# Altium integrated library NSC Logic Boundary Scan.IntLib: 3 symbols
Pins are listed as number, name and electrical type; pins without a type are passive.

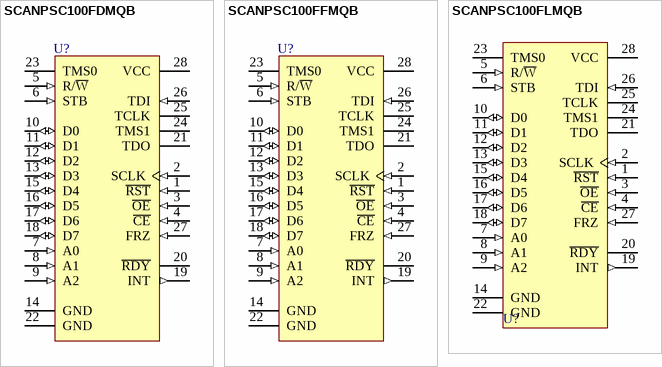
[diagram p0: symbols SCANPSC100FDMQB to SCANPSC100FLMQB]

## SCANPSC100FDMQB
designator U?
Embedded Boundary Scan Controller; ComponentAvailability: Obsolete; Published: 15-Apr-2002; LatestRevisionDate: 06-Jun-2005; LatestRevisionNote: Stylized 3D Model Added.; DatasheetVersion: Sep-1998; PackageVersion: 2000; PackageReference: J28A; Publisher: Altium Limited; PackageDescription: DIP; 28 Leads; Row Spacing 15.24 mm; Pitch 2.54 mm; ComponentLink1Description: Manufacturer Link; ComponentLink1URL: http://www.national.com/; ComponentLink2Description: Datasheet; ComponentLink2URL: http://www.national.com/ds.cgi/SC/SCANPSC100F.pdf; ComponentLink3Description: Discontinuation Notice; ComponentLink3URL: http://www.national.com/obs/obsolescence.txt; ComponentLink4Description: URL Link1; ComponentLink4URL: http://www.national.com/pf/SC/SCANPSC100F.html
footprint J28A (DIP; 28 Leads; Row Spacing 15.24 mm; Pitch 2.54 mm)
3D model J28A (DIP; 28 Leads; Row Spacing 15.24 mm; Pitch 2.54 mm)
pins: 1 ~{RST} (in), 2 SCLK (in), 3 ~{OE} (in), 4 ~{CE} (in), 5 R/~{W} (in), 6 STB (in), 7 A0 (in), 8 A1 (in), 9 A2 (in), 10 D0 (io), 11 D1 (io), 12 D2 (io), 13 D3 (io), 14 GND (power), 15 D4 (io), 16 D5 (io), 17 D6 (io), 18 D7 (io), 19 INT (out), 20 ~{RDY} (hiz), 21 TDO (hiz), 22 GND (power), 23 TMS0 (hiz), 24 TMS1 (hiz), 25 TCLK (hiz), 26 TDI (in), 27 FRZ (in), 28 VCC (power)

## SCANPSC100FFMQB
designator U?
Embedded Boundary Scan Controller; Published: 15-Apr-2002; LatestRevisionDate: 06-Jun-2005; LatestRevisionNote: Stylized 3D Model Added.; DatasheetVersion: Sep-1998; PackageVersion: 1998; PackageReference: WA28D; Publisher: Altium Limited; PackageDescription: DFP; 28 Leads; Body 18.8 x 10.2 mm (LxW max); Pitch 1.27 mm; ComponentLink1Description: Manufacturer Link; ComponentLink1URL: http://www.national.com/; ComponentLink2Description: Datasheet; ComponentLink2URL: http://www.national.com/ds.cgi/SC/SCANPSC100F.pdf; ComponentLink3Description: URL Link1; ComponentLink3URL: http://www.national.com/pf/SC/SCANPSC100F.html
footprint WA28D (DFP; 28 Leads; Body 18.8 x 10.2 mm (LxW max); Pitch 1.27 mm)
3D model WA28D (DFP; 28 Leads; Body 18.8 x 10.2 mm (LxW max); Pitch 1.27 mm)
pins: 1 ~{RST} (in), 2 SCLK (in), 3 ~{OE} (in), 4 ~{CE} (in), 5 R/~{W} (in), 6 STB (in), 7 A0 (in), 8 A1 (in), 9 A2 (in), 10 D0 (io), 11 D1 (io), 12 D2 (io), 13 D3 (io), 14 GND (power), 15 D4 (io), 16 D5 (io), 17 D6 (io), 18 D7 (io), 19 INT (out), 20 ~{RDY} (hiz), 21 TDO (hiz), 22 GND (power), 23 TMS0 (hiz), 24 TMS1 (hiz), 25 TCLK (hiz), 26 TDI (in), 27 FRZ (in), 28 VCC (power)

## SCANPSC100FLMQB
designator U?
Embedded Boundary Scan Controller; Published: 15-Apr-2002; DatasheetVersion: Sep-1998; PackageVersion: 2000; PackageReference: E28A; Publisher: Altium Limited; PackageDescription: Leadless Chip Carrier; 28 Terminals; Body 11.4 x 11.4 mm; ComponentLink1Description: Manufacturer Link; ComponentLink1URL: http://www.national.com/; ComponentLink2Description: Datasheet; ComponentLink2URL: http://www.national.com/ds.cgi/SC/SCANPSC100F.pdf; ComponentLink3Description: URL Link1; ComponentLink3URL: http://www.national.com/pf/SC/SCANPSC100F.html
footprint E28A (Leadless Chip Carrier; 28 Terminals; Body 11.4 x 11.4 mm)
pins: 1 ~{RST} (in), 2 SCLK (in), 3 ~{OE} (in), 4 ~{CE} (in), 5 R/~{W} (in), 6 STB (in), 7 A0 (in), 8 A1 (in), 9 A2 (in), 10 D0 (io), 11 D1 (io), 12 D2 (io), 13 D3 (io), 14 GND (power), 15 D4 (io), 16 D5 (io), 17 D6 (io), 18 D7 (io), 19 INT (out), 20 ~{RDY} (hiz), 21 TDO (hiz), 22 GND (power), 23 TMS0 (hiz), 24 TMS1 (hiz), 25 TCLK (hiz), 26 TDI (in), 27 FRZ (in), 28 VCC (power)